# EAGLE library part SFH6731 (library ck_custom)
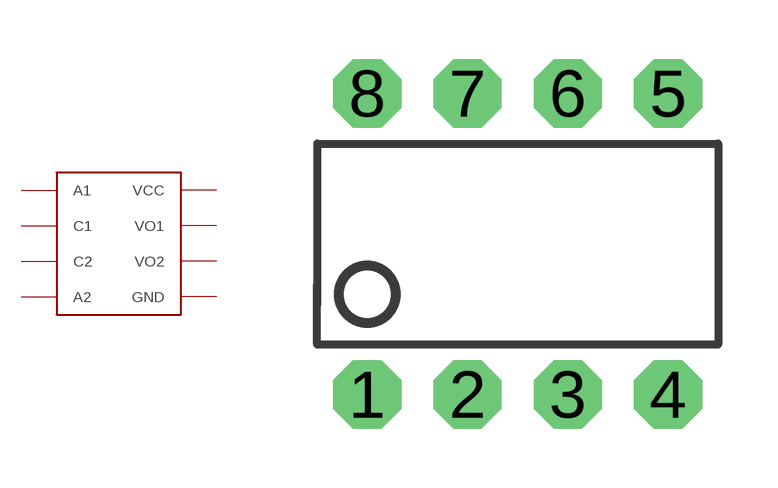
[diagram p9: symbol with the pads of DIP8; footprint DIP8]

Designator prefix -

## SFH6731  [DIP8]
1  A1
2  C1
3  C2
4  A2
5  GND
6  VO2
7  VO1
8  VCC

## Footprint DIP8 (pad centres in mm)
drill 0.813 pad 1.727 octagon: 1 1.27,0; 2 3.81,0; 3 6.35,0; 4 8.89,0; 5 8.89,7.62; 6 6.35,7.62; 7 3.81,7.62; 8 1.27,7.62